# EAGLE library part SN74AHCT367 (library texas-instruments)
IC BUFF/DVR TRI-ST HEX 16SOIC
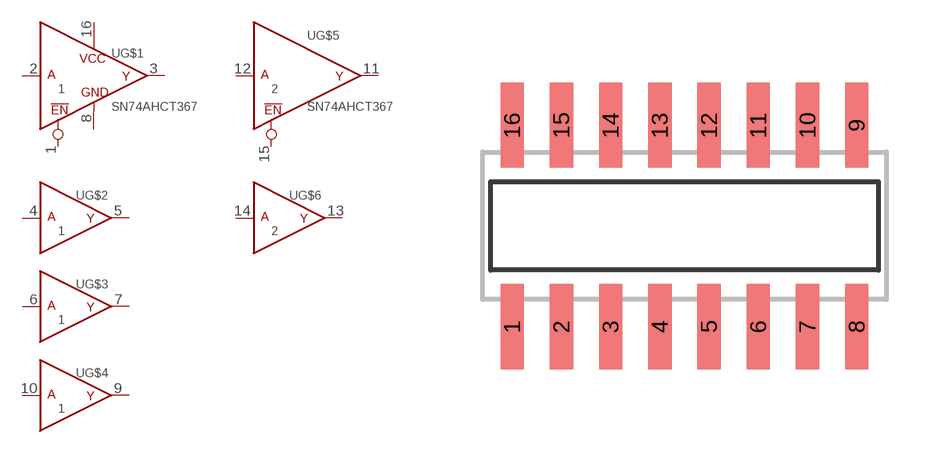
[diagram p35: symbol with the pads of SOIC_16_D; footprint SOIC_16_D]

Designator prefix U; gates G$1=BUF_M G$2=BUF_S G$3=BUF_S G$4=BUF_S G$5=BUF_M2 G$6=BUF_S2

## SN74AHCT367 (DIGIKEY: 296-4735-1-ND; P1I: o)  [SOIC_16_D]
1  G$1:!EN1
2  G$1:1A
3  G$1:1Y
4  G$2:1A
5  G$2:1Y
6  G$3:1A
7  G$3:1Y
8  G$1:GND
9  G$4:1Y
10  G$4:1A
11  G$5:2Y
12  G$5:2A
13  G$6:2Y
14  G$6:2A
15  G$5:!EN2
16  G$1:VCC

## Footprint SOIC_16_D (pad centres in mm)
SMALL OUTLINE INTEGRATED CIRCUIT body 3.9 mm/JEDEC MS-012AC
smd 0.6 x 2.2: 1 -4.445,-2.6; 2 -3.175,-2.6; 3 -1.905,-2.6; 4 -0.635,-2.6; 5 0.635,-2.6; 6 1.905,-2.6; 7 3.175,-2.6; 8 4.445,-2.6; 9 4.445,2.6; 10 3.175,2.6; 11 1.905,2.6; 12 0.635,2.6; 13 -0.635,2.6; 14 -1.905,2.6; 15 -3.175,2.6; 16 -4.445,2.6